# Altium integrated library Analog Devices Data Converters Analog-to-Digital Converters.IntLib: 2400 symbols (part 55 of 338)
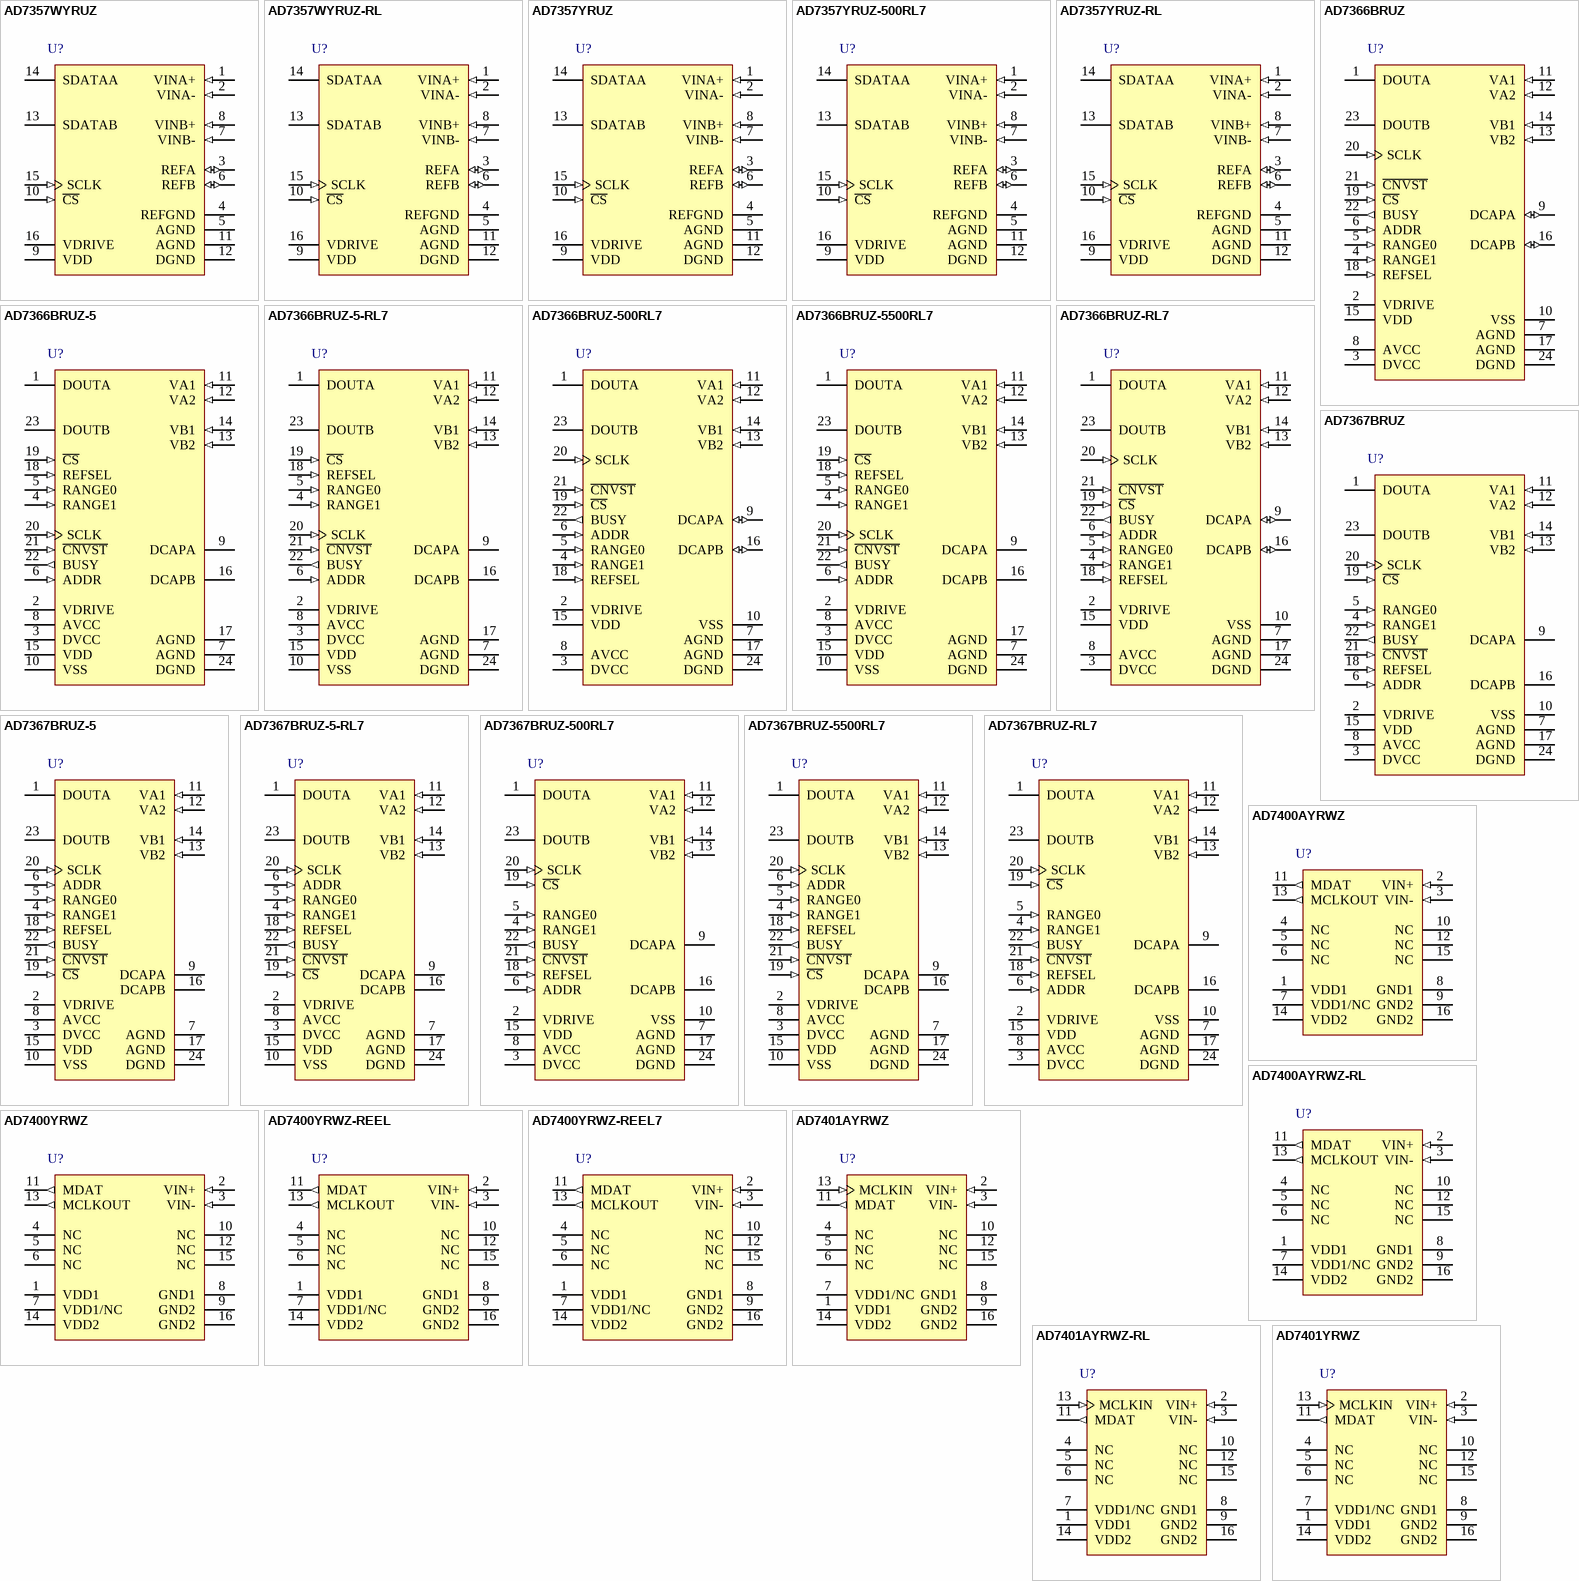
[diagram p286: symbols AD7357WYRUZ to AD7401YRWZ]

## AD7367BRUZ-500RL7
designator U?
Dual 14-Bit True Bipolar Input SAR Analog-to-Digital Converter with Serial, SPI Interface, Simultaneous Sampling, 1MSPS, -40 to +85 degC, RU-24, Pb-Free, Reel; Part Number: AD7367; Manufacturer: Analog Devices; Resolution (Bits): 14; Channels: 4; Throughput Rate (SPS): 1M; Interface: Ser, SPI; DatasheetVersion: Rev.D; PackageVersion: 2002; PackageReference: RU-24; PackageDescription: 24-Lead Thin Shrink Small Outline Package [TSSOP]; RoHS: Y; Packing: Reel; Mounting Technology: Surface Mount; Code_JEDEC: MO-153-AD; ComponentLink1Description: Manufacturer URL; ComponentLink1URL: http://www.analog.com/en/index.html; ComponentLink2Description: Datasheet; ComponentLink2URL: http://www.analog.com/static/imported-files/data_sheets/AD7366_7367.pdf; ComponentLink3Description: Package Specification; ComponentLink3URL: http://www.analog.com/static/imported-files/packages/380523655245964505593671154107510036154RU24.pdf; ComponentLink4Description: Product URL; ComponentLink4URL: http://www.analog.com/en/analog-to-digital-converters/ad-converters/ad7367/products/product.html
footprint RU-24_N (TSOP, 24-Leads, Body 7.8x4.4mm, Pitch 0.65mm, IPC Medium Density)
footprint RU-24_L (TSOP, 24-Leads, Body 7.8x4.4mm, Pitch 0.65mm, IPC High Density)
footprint RU-24_M (TSOP, 24-Leads, Body 7.8x4.4mm, Pitch 0.65mm, IPC Low Density)
pins: 1 DOUTA (hiz) "Serial Data Outputs. The data output is supplied to each pin as a serial data stream. The bits are clocked out on the falling edge of the SCLK input; 12 SCLK cycles are required to access a result from the AD7366, and 14 (See Datasheet)", 2 VDRIVE (power) "Logic Power Supply Input. The voltage supplied at this pin determines at what voltage the interface operates. This pin should be decoupled to DGND. The voltage range on this pin is 2.7 V to 5.25 V and may be different from (See Datasheet)", 3 DVCC (power) "Digital Supply Voltage, 4.75 V to 5.25 V. The DVCC and AVCC voltages should ideally be at the same potential. For best performance, it is recommended that the DVCC and AVCC pins be shorted together, to ensure that the (See Datasheet)", 4 RANGE1 (in) "Analog Input Range Selection, Logic Inputs. The polarity on these pins determines the input range of the analog input channels. See the Analog Inputs section and Table 8 for details.", 5 RANGE0 (in) "Analog Input Range Selection, Logic Inputs. The polarity on these pins determines the input range of the analog input channels. See the Analog Inputs section and Table 8 for details.", 6 ADDR (in) "Multiplexer Select, Logic Input. This input is used to select the pair of channels to be simultaneously converted,either Channel 1 of both ADC A and ADC B, or Channel 2 of both ADC A and ADC B. The logic state on this pin is (See Datasheet)", 7 AGND (power) "Analog Ground. Ground reference point for all analog circuitry on the AD7366/AD7367. All analog input signals and any external reference signal should be referred to this AGND voltage. Both AGND pins should connect to the (See Datasheet)", 8 AVCC (power) "Analog Supply Voltage, 4.75 V to 5.25 V. This is the supply voltage for the ADC cores. The AVCC and DVCC voltages should ideally be at the same potential. For best performance, it is recommended that the DVCC and AVCC pins (See Datasheet)", 9 DCAPA "Decoupling Capacitor Pins. Decoupling capacitors are connected to these pins to decouple the reference buffer for each respective ADC. For best performance, it is recommended that a 680 nF decoupling capacitor be used on (See Datasheet)", 10 VSS (power) "Negative Power Supply Voltage. This is the negative supply voltage for the high voltage analog input structure of the AD7366/AD7367. The supply must be less than a maximum voltage of -11.5 V for all analog input ranges.See (See Datasheet)", 11 VA1 (in) "Analog Inputs of ADC A. Both analog inputs are single-ended. The analog input range on these channels is determined by the RANGE0 and RANGE1 pins.", 12 VA2 (in) "Analog Inputs of ADC A. Both analog inputs are single-ended. The analog input range on these channels is determined by the RANGE0 and RANGE1 pins.", 13 VB2 (in) "Analog Inputs of ADC B. Both analog inputs are single-ended. The analog input range on these channels is determined by the RANGE0 and RANGE1 pins.", 14 VB1 (in) "Analog Inputs of ADC B. Both analog inputs are single-ended. The analog input range on these channels is determined by the RANGE0 and RANGE1 pins.", 15 VDD (power) "Positive Power Supply Voltage. This is the positive supply voltage for the high voltage analog input structure of the AD7366/AD7367. The supply must be greater than a minimum voltage of 11.5 V for all analog input ranges.See (See Datasheet)", 16 DCAPB "Decoupling Capacitor Pins. Decoupling capacitors are connected to these pins to decouple the reference buffer for each respective ADC. For best performance, it is recommended that a 680 nF decoupling capacitor be used on (See Datasheet)", 17 AGND (power) "Analog Ground. Ground reference point for all analog circuitry on the AD7366/AD7367. All analog input signals and any external reference signal should be referred to this AGND voltage. Both AGND pins should connect to the (See Datasheet)", 18 REFSEL (in) "Internal/External Reference Selection, Logic Input. If this pin is tied to logic high, the on-chip 2.5 V reference is used as the reference source for both ADC A and ADC B. In addition, Pin DCAPA and Pin DCAPB must be tied (See Datasheet)", 19 ~{CS} (in) "Chip Select, Active Low Logic Input. This input frames the serial data transfer. When C\S\ is logic low, the output bus is enabled and the conversion result is output on DOUTA and DOUTB.", 20 SCLK (in) "Serial Clock, Logic Input. A serial clock input provides the SCLK for accessing the data from the AD7366/AD7367.", 21 ~{CNVST} (in) "Conversion Start, Logic Input. This pin is edge triggered. On the falling edge of this input, the track/hold goes into hold mode and the conversion is initiated. If C\N\V\S\T\ is low at the end of a conversion, the part goes (See Datasheet)", 22 BUSY (out) "Busy Output. BUSY transitions high when a conversion is started and remains high until the conversion is complete.", 23 DOUTB (hiz) "Serial Data Outputs. The data output is supplied to each pin as a serial data stream. The bits are clocked out on the falling edge of the SCLK input; 12 SCLK cycles are required to access a result from the AD7366, and 14 (See Datasheet)", 24 DGND (power) "Digital Ground. Ground reference point for all digital circuitry on the AD7366/AD7367. The DGND pin should connect to the DGND plane of a system. The DGND and AGND voltages should ideally be at the same potential and must (See Datasheet)"